# Altium schematic symbol library Capacitor.SchLib: 3 symbols
Pins are listed as number, name and electrical type; pins without a type are passive.

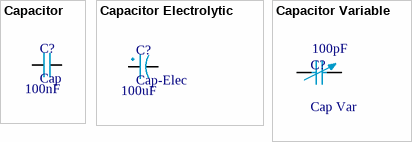
[diagram p0: symbols Capacitor to Capacitor Variable]

## Capacitor
designator C?, comment Cap  value 100nF
Capacitor (non polarized); Voltage: 50V
footprint cap-cer-100 (Ceramic Capacitor - 100mil Pitch)
footprint cap-cer-200 (Ceramic Capacitor - 200mil Pitch)
footprint cap-mkt-5*18*10-600mil (MKT Capacitor - Dimenssion 5*18*10 (W,L,H) - 600mil Pitch)
footprint cap-pol-4*7*12-200mil (Polyester Capacitor - Dimenssion 4*7*12 (W,L,H) - 200mil Pitch)
footprint cap-pol-5*22*9-800mil (Polyester Capacitor - Dimenssion 5*22*9 (W,L,H) - 800 mil Pitch)
footprint cap-pol-6*17*11-600mil (Polyester Capacitor - Dimenssion 6*17*11 (W,L,H) - 600mil Pitch)
footprint cap-mkt-7*18*13-600mil (MKT Capacitor - Dimenssion 4*18*13 (W,L,H) - 600mil Pitch)
footprint cap-pol-6*9*9-300mil (Polyester Capacitor - Dimenssion 6*9*9 (W,L,H) - 300mil Pitch)
footprint C 0201(0603)x0.3
footprint C 0402(1005)x0.5
footprint C 0603(1608)x0.8
footprint C 0805(2012)x0.65
footprint C 0805(2012)x0.85
footprint C 0805(2012)x1.25
footprint C 1206(3216)x1.25
footprint C 1206(3216)x1.6
footprint C 1210(3225)x1.25
footprint C 1210(3225)x1.6
footprint C 1210(3225)x2
footprint C 1210(3225)x2.5
footprint C 1808(4520)x2
footprint C 1812(4532)x1.25
footprint C 1812(4532)x1.6
footprint C 1812(4532)x2
footprint C 1812(4532)x2.5
footprint C 1825(4564)x1.27
footprint C 1825(4564)x2.29
footprint C 1825(4564)x2.54
footprint C 2220(5750)x1.6
footprint C 2220(5750)x2
footprint C 2220(5750)x2.5
footprint C 1206(3216)x0.85
pins: 1, 2

## Capacitor Electrolytic
designator C?, comment Cap-Elec  value 100uF
Capacitor (ploarized); Voltage: 63V
footprint cap-elec-4*8-100mil (Radial Electrolytic Capacitor - Dimenssion 4*8 (D,H) - 100mil Pitch)
footprint cap-elec-5*12-100mil (Radial Electrolytic Capacitor - Dimenssion 5*12 (D,H) - 100mil Pitch)
footprint cap-elec-5*12-200mil (Radial Electrolytic Capacitor - Dimenssion 5*12 (D,H) - 200mil Pitch)
footprint cap-elec-8*15-100mil (Radial Electrolytic Capacitor - Dimenssion 8*15 (D,H) - 100mil Pitch)
footprint cap-elec-10*13-200mil (Radial Electrolytic Capacitor - Dimenssion 10*13 (D,H) - 200mil Pitch)
footprint cap-elec-10*22-200mil (Radial Electrolytic Capacitor - Dimenssion 10*22 (D,H) - 200mil Pitch)
footprint cap-elec-13*21-200mil (Radial Electrolytic Capacitor - Dimenssion 13*21 (D,H) - 200mil Pitch)
footprint cap-elec-13*25-200mil (Radial Electrolytic Capacitor - Dimenssion 13*25 (D,H) - 200mil Pitch)
footprint cap-elec-16*25-300mil (Radial Electrolytic Capacitor - Dimenssion 16*25 (D,H) - 300mil Pitch)
footprint Rubycon MXG
footprint cap-elec-smd-4*5.8
footprint CAP-ELEC-SMD-5*5.8
footprint cap-elec-smd-6.3*5.3
footprint cap-elec-smd-10*10
footprint CAP-ELEC-SMD-8*6.2
footprint CAP-ELEC-SMD-8*10.2
footprint EL-T Case A 1206(3216-18) (Capacitor, SM Tantalum; Body 3.2 x 1.8 mm (LxW typ))
footprint EL-T Case B 1210(3528-21) (Capacitor, SM Tantalum; Body 3.5 x 2.1 mm (LxW typ))
footprint EL-T Case C 2312(6032-28) (Capacitor, SM Tantalum; Body 6.0 x 2.8 mm (LxW typ))
footprint EL-T Case D 2917(7343-31) (Capacitor, SM Tantalum; Body 7.3 x 3.1 mm (LxW typ))
footprint EL-T Case E 2917(7353-43) (Capacitor, SM Tantalum; Body 7.3 x 4.3 mm (LxW typ))
footprint EL-T Case V 2917(7353-38) (Capacitor, SM Tantalum; Body 7.3 x 3.8 mm (LxW typ))
pins: A 2, K 1

## Capacitor Variable
designator C?, comment Cap Var  value 100pF
Variable or Adjustable Capacitor
footprint cap-var-200mil
pins: 1, 2